# EAGLE library part CLV6A-FKB (library LEDs)
Full Color PLCC6 LED OVSTRGBBCR8 Source: www.optekinc.com .. ovstrgbbcr8.pdf
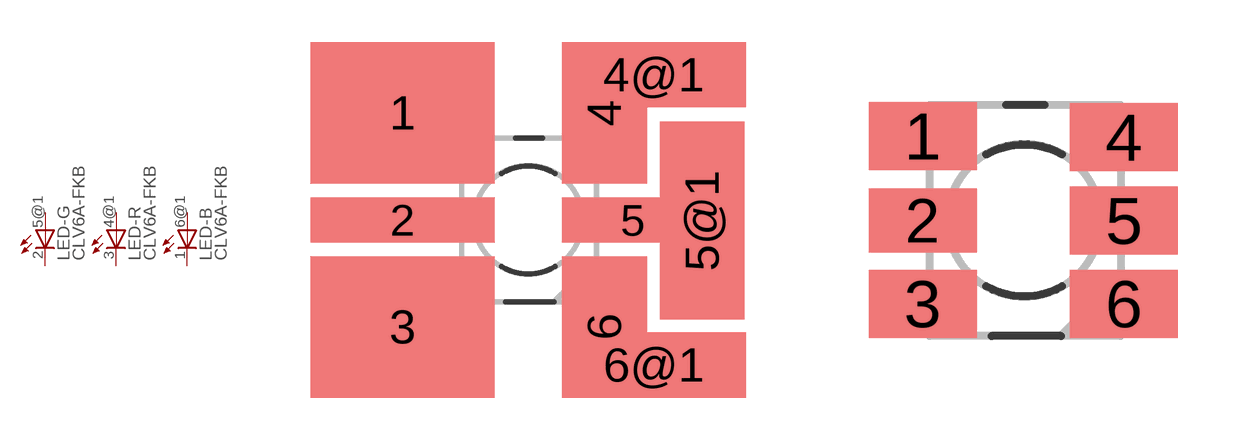
[diagram p2: symbol with the pads of PLCC6; footprints PLCC6, PLCC6_COMPACT]

Designator prefix LED; gates -G=LED-A -R=LED-A -B=LED-A

## CLV6A-FKB  [PLCC6]
1  -B:C  pas
2  -G:C  pas
3  -R:C  pas
4@1  -R:A  pas
5@1  -G:A  pas
6@1  -B:A  pas

## CLV6A-FKBCOMPACT  [PLCC6_COMPACT]
1  -B:C  pas
2  -G:C  pas
3  -R:C  pas
4  -R:A  pas
5  -G:A  pas
6  -B:A  pas

## Footprint PLCC6 (pad centres in mm)
Full Color PLCC6 LED OVSTRGBBCR8 Source: www.optekinc.com .. ovstrgbbcr8.pdf
smd 6.5 x 5: 1 -4.442,3.786; 3 -4.442,-3.786
smd 6.5 x 1.6: 2 -4.442,0
smd 3 x 5: 4 2.692,3.786; 6 2.692,-3.786
smd 6.5 x 2.3: 4@1 4.442,5.136; 6@1 4.442,-5.136
smd 5 x 1.6: 5 3.692,0
smd 3 x 7: 5@1 6.15,-0.025

## Footprint PLCC6_COMPACT (pad centres in mm)
smd 2.7 x 1.7: 1 -2.537,2.116; 3 -2.542,-2.086; 4 2.492,2.086; 5 2.492,0; 6 2.492,-2.086
smd 2.7 x 1.6: 2 -2.542,0